# Altium footprint library PCB_Library_1.PcbLib: 41 footprints (part 1 of 3)
Each footprint in its own frame and in the unit in brackets; x right, y up, seen from the top. Pads: shape width x height; smd on the part's side, far side on the other; paste and mask are expansions set on the pad; w line width, h text height; cw(c..) or ccw(c..) is an arc to the next point about the centre after c.
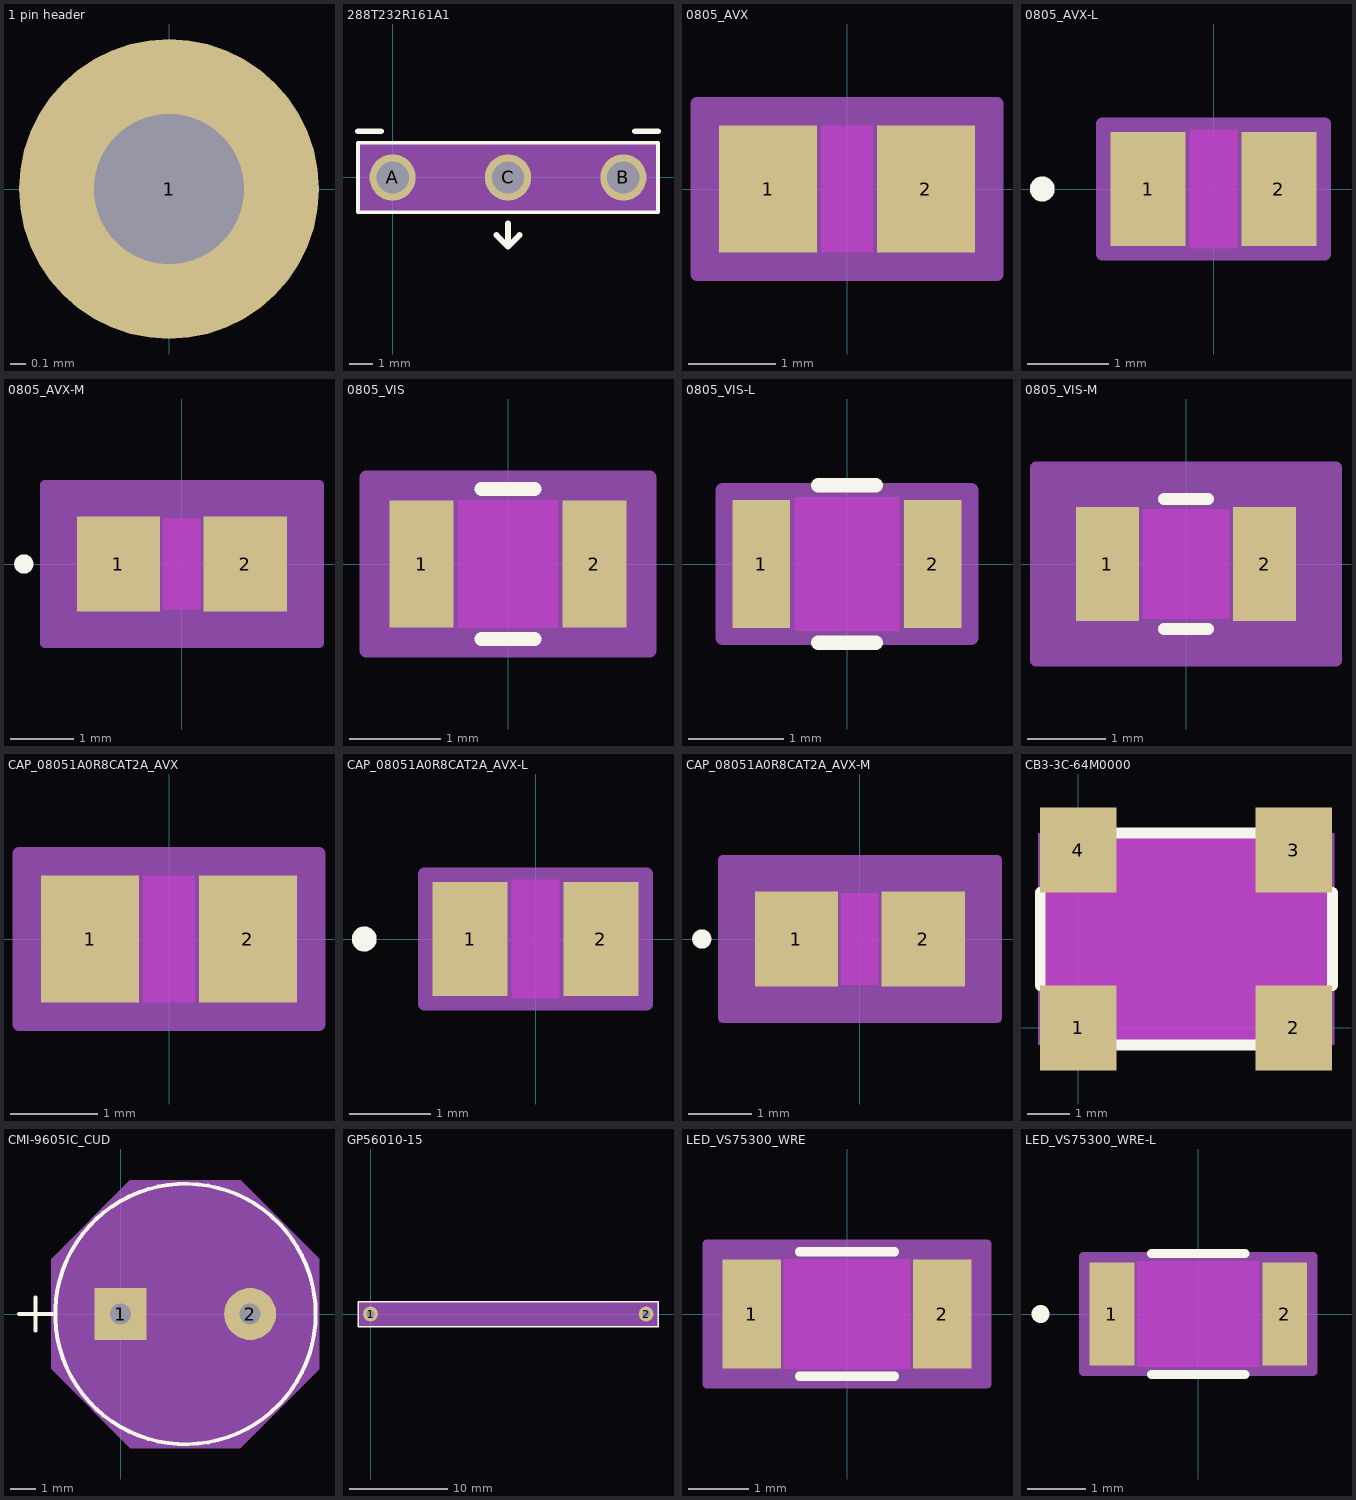
[diagram p0: the footprints below, top view; thin cyan lines are the x and y axes]

## 1 pin header [mil]
pads (1):
  round 76 / inner rect 70.87x78.74 / far side round 76 hole 38 mask+0: 1(0,0)

## 288T232R161A1 [mm]
height 9.5
pads (3):
  round 2 hole 1.4 mask+0: A(0,0) B(10,0) C(5,0)
Top Overlay:
  lines w0.152: -1.5,-1.5 11.5,-1.5 11.5,1.5 -1.5,1.5 -1.5,-1.5
  lines w0.254: -1.5,2 -0.5,2 ; 5,-2 5,-3 ; 5.5,-2.5 5,-3 ; 10.5,2 11.5,2 ; 5,-3 4.5,-2.5 5,-3
Mechanical 15:
  rectangle: -1.5,-1.5 11.5,1.5

## 0805_AVX [mil]
pads (2):
  rect 44x57 smd paste+0 mask+0: 1(-35.5,0) 2(35.5,0)
Top Layer keep-out:
  region: -11.5,-26.5 -11.5,26.5 11.5,26.5 11.5,-26.5
Keep-Out Layer:
  region: -11.5,-28.5 -11.5,28.5 11.5,28.5 11.5,-28.5
Mechanical 13:
  lines w1: -43.5,-28.5 -43.5,28.5 ; -43.5,-28.5 43.5,-28.5 ; -43.5,-28.5 -13.5,-28.5 -13.5,28.5 -43.5,28.5 ; -43.5,-28.5 -43.5,28.5 ; -43.5,28.5 43.5,28.5 ; 43.5,-28.5 43.5,28.5 ; 43.5,-28.5 43.5,28.5 ; 43.5,-28.5 13.5,-28.5 13.5,28.5 43.5,28.5
Mechanical 15:
  region: 67.5,-38.5 -67.5,-38.5 -67.5,38.5 67.5,38.5
  lines w6: -67.5,-38.5 67.5,-38.5 67.5,38.5 -67.5,38.5 -67.5,-38.5
3D body "0805_AVX.step": height 37.01, standoff 0, extent -43.5,-28.5 43.5,28.5

## 0805_AVX-L [mil]
pads (2):
  rect 36x55 smd paste+0 mask+0: 1(-31.5,0) 2(31.5,0)
Top Layer keep-out:
  region: -11.5,-26.5 -11.5,26.5 11.5,26.5 11.5,-26.5
Top Overlay:
  circle w6: c-82.5,0 r3
Keep-Out Layer:
  region: -11.5,-28.5 -11.5,28.5 11.5,28.5 11.5,-28.5
Mechanical 13:
  circle w0: c-26.5,0 r3
  lines w1: -43.5,-28.5 -43.5,28.5 ; -43.5,-28.5 -13.5,-28.5 -13.5,28.5 -43.5,28.5 ; -43.5,-28.5 43.5,-28.5 ; -43.5,-28.5 -43.5,28.5 ; -43.5,28.5 43.5,28.5 ; 43.5,-28.5 13.5,-28.5 13.5,28.5 43.5,28.5 ; 43.5,-28.5 43.5,28.5 ; 43.5,-28.5 43.5,28.5
Mechanical 15:
  region: 53.5,-31.5 -53.5,-31.5 -53.5,31.5 53.5,31.5
  lines w6: -53.5,-31.5 -53.5,31.5 53.5,31.5 53.5,-31.5 -53.5,-31.5
3D body "0805_AVX.step": height 37.01, standoff 0, extent -43.5,-28.5 43.5,28.5

## 0805_AVX-M [mil]
pads (2):
  rect 52x59 smd paste+0 mask+0: 1(-39.5,0) 2(39.5,0)
Top Layer keep-out:
  region: -11.5,-26.5 -11.5,26.5 11.5,26.5 11.5,-26.5
Top Overlay:
  circle w6: c-98.5,0 r3
Keep-Out Layer:
  region: -11.5,-28.5 -11.5,28.5 11.5,28.5 11.5,-28.5
Mechanical 13:
  circle w0: c-34.5,0 r3
  lines w1: -43.5,-28.5 -43.5,28.5 ; -43.5,-28.5 43.5,-28.5 ; -43.5,-28.5 -13.5,-28.5 -13.5,28.5 -43.5,28.5 ; -43.5,-28.5 -43.5,28.5 ; -43.5,28.5 43.5,28.5 ; 43.5,-28.5 43.5,28.5 ; 43.5,-28.5 43.5,28.5 ; 43.5,-28.5 13.5,-28.5 13.5,28.5 43.5,28.5
Mechanical 15:
  region: 85.5,-49.5 -85.5,-49.5 -85.5,49.5 85.5,49.5
  lines w6: -85.5,-49.5 85.5,-49.5 85.5,49.5 -85.5,49.5 -85.5,-49.5
3D body "0805_AVX.step": height 37.01, standoff 0, extent -43.5,-28.5 43.5,28.5

## 0805_VIS [mm]
pads (2):
  rect 0.703x1.4 smd paste+0 mask+0: 1(-0.952,0) 2(0.952,0)
Top Layer keep-out:
  region: -0.549,-0.649 -0.549,0.649 0.549,0.649 0.549,-0.649
Top Overlay:
  lines w0.152: -0.292,-0.827 0.292,-0.827 ; -0.292,0.827 0.292,0.827
Keep-Out Layer:
  region: -0.549,-0.7 -0.549,0.7 0.549,0.7 0.549,-0.7
Mechanical 13:
  lines w0.025: -1.1,-0.7 -1.1,0.7 ; -1.1,-0.7 -0.6,-0.7 -0.6,0.7 -1.1,0.7 ; -1.1,-0.7 1.1,-0.7 ; -1.1,-0.7 -1.1,0.7 ; -1.1,0.7 1.1,0.7 ; 1.1,-0.7 0.6,-0.7 0.6,0.7 1.1,0.7 ; 1.1,-0.7 1.1,0.7 ; 1.1,-0.7 1.1,0.7
Mechanical 15:
  region: 1.557,-0.954 -1.557,-0.954 -1.557,0.954 1.557,0.954
  lines w0.152: -1.557,-0.954 -1.557,0.954 1.557,0.954 1.557,-0.954 -1.557,-0.954
3D body "0805_VIS.step": height 0.84, standoff 0, extent -1.1,-0.7 1.1,0.7

## 0805_VIS-L [mil]
pads (2):
  rect 23.68x53.12 smd paste+0 mask+0: 1(-35.46,0) 2(35.46,0)
Top Layer keep-out:
  region: -21.62,-25.56 -21.62,25.56 21.62,25.56 21.62,-25.56
Top Overlay:
  lines w6: -11.98,-32.56 11.98,-32.56 ; -11.98,32.56 11.98,32.56
Keep-Out Layer:
  region: -21.62,-27.56 -21.62,27.56 21.62,27.56 21.62,-27.56
Mechanical 13:
  lines w1: -43.31,-27.56 -43.31,27.56 ; -43.31,-27.56 43.31,-27.56 ; -43.31,-27.56 -23.62,-27.56 -23.62,27.56 -43.31,27.56 ; -43.31,-27.56 -43.31,27.56 ; -43.31,27.56 43.31,27.56 ; 43.31,-27.56 43.31,27.56 ; 43.31,-27.56 43.31,27.56 ; 43.31,-27.56 23.62,-27.56 23.62,27.56 43.31,27.56
Mechanical 15:
  region: 51.31,-30.56 -51.31,-30.56 -51.31,30.56 51.31,30.56
  lines w6: -51.31,-30.56 51.31,-30.56 51.31,30.56 -51.31,30.56 -51.31,-30.56
3D body "0805_VIS.step": height 32.99, standoff 0, extent -43.31,-27.56 43.31,27.56

## 0805_VIS-M [mil]
pads (2):
  rect 31.68x57.12 smd paste+0 mask+0: 1(-39.46,0) 2(39.46,0)
Top Layer keep-out:
  region: -21.62,-25.56 -21.62,25.56 21.62,25.56 21.62,-25.56
Top Overlay:
  lines w6: -11.15,-32.56 11.15,-32.56 ; -11.15,32.56 11.15,32.56
Keep-Out Layer:
  region: -21.62,-27.56 -21.62,27.56 21.62,27.56 21.62,-27.56
Mechanical 13:
  lines w1: -43.31,-27.56 -43.31,27.56 ; -43.31,-27.56 43.31,-27.56 ; -43.31,-27.56 -23.62,-27.56 -23.62,27.56 -43.31,27.56 ; -43.31,-27.56 -43.31,27.56 ; -43.31,27.56 43.31,27.56 ; 43.31,-27.56 43.31,27.56 ; 43.31,-27.56 43.31,27.56 ; 43.31,-27.56 23.62,-27.56 23.62,27.56 43.31,27.56
Mechanical 15:
  region: 75.31,-48.56 -75.31,-48.56 -75.31,48.56 75.31,48.56
  lines w6: -75.31,-48.56 75.31,-48.56 75.31,48.56 -75.31,48.56 -75.31,-48.56
3D body "0805_VIS.step": height 32.99, standoff 0, extent -43.31,-27.56 43.31,27.56

## CAP_08051A0R8CAT2A_AVX [mil]
pads (2):
  rect 44x57 smd paste+0 mask+0: 1(-35.5,0) 2(35.5,0)
Top Layer keep-out:
  region: -11.5,-26.5 -11.5,26.5 11.5,26.5 11.5,-26.5
Keep-Out Layer:
  region: -11.5,-28.5 -11.5,28.5 11.5,28.5 11.5,-28.5
Mechanical 13:
  lines w1: -43.5,-28.5 -43.5,28.5 ; -43.5,-28.5 43.5,-28.5 ; -43.5,-28.5 -13.5,-28.5 -13.5,28.5 -43.5,28.5 ; -43.5,-28.5 -43.5,28.5 ; -43.5,28.5 43.5,28.5 ; 43.5,-28.5 43.5,28.5 ; 43.5,-28.5 43.5,28.5 ; 43.5,-28.5 13.5,-28.5 13.5,28.5 43.5,28.5
Mechanical 15:
  region: 67.5,-38.5 -67.5,-38.5 -67.5,38.5 67.5,38.5
  lines w6: -67.5,-38.5 67.5,-38.5 67.5,38.5 -67.5,38.5 -67.5,-38.5
3D body "CAP_08051A0R8CAT2A_AVX.step": height 37.01, standoff 0, extent -43.5,-28.5 43.5,28.5

## CAP_08051A0R8CAT2A_AVX-L [mil]
pads (2):
  rect 36x55 smd paste+0 mask+0: 1(-31.5,0) 2(31.5,0)
Top Layer keep-out:
  region: -11.5,-26.5 -11.5,26.5 11.5,26.5 11.5,-26.5
Top Overlay:
  circle w6: c-82.5,0 r3
Keep-Out Layer:
  region: -11.5,-28.5 -11.5,28.5 11.5,28.5 11.5,-28.5
Mechanical 13:
  circle w0: c-26.5,0 r3
  lines w1: -43.5,-28.5 -43.5,28.5 ; -43.5,-28.5 -13.5,-28.5 -13.5,28.5 -43.5,28.5 ; -43.5,-28.5 43.5,-28.5 ; -43.5,-28.5 -43.5,28.5 ; -43.5,28.5 43.5,28.5 ; 43.5,-28.5 13.5,-28.5 13.5,28.5 43.5,28.5 ; 43.5,-28.5 43.5,28.5 ; 43.5,-28.5 43.5,28.5
Mechanical 15:
  region: 53.5,-31.5 -53.5,-31.5 -53.5,31.5 53.5,31.5
  lines w6: -53.5,-31.5 -53.5,31.5 53.5,31.5 53.5,-31.5 -53.5,-31.5
3D body "CAP_08051A0R8CAT2A_AVX.step": height 37.01, standoff 0, extent -43.5,-28.5 43.5,28.5

## CAP_08051A0R8CAT2A_AVX-M [mil]
pads (2):
  rect 52x59 smd paste+0 mask+0: 1(-39.5,0) 2(39.5,0)
Top Layer keep-out:
  region: -11.5,-26.5 -11.5,26.5 11.5,26.5 11.5,-26.5
Top Overlay:
  circle w6: c-98.5,0 r3
Keep-Out Layer:
  region: -11.5,-28.5 -11.5,28.5 11.5,28.5 11.5,-28.5
Mechanical 13:
  circle w0: c-34.5,0 r3
  lines w1: -43.5,-28.5 -43.5,28.5 ; -43.5,-28.5 -13.5,-28.5 -13.5,28.5 -43.5,28.5 ; -43.5,-28.5 43.5,-28.5 ; -43.5,-28.5 -43.5,28.5 ; -43.5,28.5 43.5,28.5 ; 43.5,-28.5 13.5,-28.5 13.5,28.5 43.5,28.5 ; 43.5,-28.5 43.5,28.5 ; 43.5,-28.5 43.5,28.5
Mechanical 15:
  region: 85.5,-49.5 -85.5,-49.5 -85.5,49.5 85.5,49.5
  lines w6: -85.5,-49.5 -85.5,49.5 85.5,49.5 85.5,-49.5 -85.5,-49.5
3D body "CAP_08051A0R8CAT2A_AVX.step": height 37.01, standoff 0, extent -43.5,-28.5 43.5,28.5

## CB3-3C-64M0000 [mm]
pads (4):
  rect 1.8x2 smd mask+0: 1(0,0) 2(5.08,0) 3(5.08,4.2) 4(0,4.2)
Top Layer keep-out:
  region: -0.9,3.2 -0.9,1 0.9,1 0.9,-0.4 4.175,-0.4 4.175,1 5.975,1 5.975,3.2 4.175,3.2 4.175,4.6 0.9,4.6 0.9,3.2
Top Overlay:
  lines w0.254: -0.9,1 -0.9,3.2 ; 0.9,-0.4 4.2,-0.4 ; 0.9,4.6 4.2,4.6 ; 6,1 6,3.2
Mechanical 15:
  rectangle: -0.95,-0.4 6.05,4.6

## CMI-9605IC_CUD [mil]
pads (2):
  rect 79x79 / inner round 60 / far side rect 79x79 hole 32 paste-99999 mask+0: 1(0,0)
  round 79 / inner round 60 / far side round 79 hole 32 paste-99999 mask+0: 2(196.85,0)
Top Overlay:
  circle w6: c98.43,0 r198
  lines w6: -154.57,0 -104.57,0 ; -129.57,-25 -129.57,25
Mechanical 13:
  circle w0: c98.43,0 r193
  lines w1: -154.57,0 -104.57,0 ; -129.57,-25 -129.57,25
Mechanical 15:
  region: -104.57,83.59 14.84,203 182.01,203 301.43,83.59 301.43,-83.59 182.01,-203 14.84,-203 -104.57,-83.59
  lines w1: -104.57,-83.59 14.84,-203 182.01,-203 301.43,-83.59 301.43,83.59 182.01,203 14.84,203 -104.57,83.59 -104.57,-83.59
3D body "CMI-9605IC_CUD.step": height 187.6, standoff -165.98, extent -94.57,-193 292.41,193

## GP56010-15 [mm]
pads (2):
  round 1.5 hole 0.813 mask+0: 1(0,0) 2(28,0)
Top Overlay:
  lines w0.152: -1.27,-1.27 29.21,-1.27 29.21,1.27 -1.27,1.27 -1.27,-1.27
Mechanical 15:
  rectangle: -1.27,-1.27 29.21,1.27

## LED_VS75300_WRE [mil]
pads (2):
  rect 38x71 smd paste+0 mask+0: 1(-62,0) 2(62,0)
Top Layer keep-out:
  region: -41,-33.5 -41,33.5 41,33.5 41,-33.5
Top Overlay:
  lines w6: -30.89,-40.5 30.89,-40.5 ; -30.89,40.5 30.89,40.5
Keep-Out Layer:
  region: -41,-35.5 -41,35.5 41,35.5 41,-35.5
Mechanical 13:
  lines w1: -67,-35.5 -67,35.5 ; -67,-35.5 67,-35.5 ; -67,-35.5 -43,-35.5 -43,35.5 -67,35.5 ; -67,-35.5 -67,35.5 ; -67,35.5 67,35.5 ; 67,-35.5 67,35.5 ; 67,-35.5 67,35.5 ; 67,-35.5 43,-35.5 43,35.5 67,35.5
Mechanical 15:
  region: 91,-45.5 -91,-45.5 -91,45.5 91,45.5
  lines w6: -91,-45.5 91,-45.5 91,45.5 -91,45.5 -91,-45.5
3D body "LED_VS75300_WRE.step": height 55, standoff 0, extent -67.01,-35.51 67.01,35.51

## LED_VS75300_WRE-L [mil]
pads (2):
  rect 30x69 smd paste+0 mask+0: 1(-58,0) 2(58,0)
Top Layer keep-out:
  region: -41,-33.5 -41,33.5 41,33.5 41,-33.5
Top Overlay:
  circle w6: c-106,0 r3
  lines w6: -31.35,-40.5 31.35,-40.5 ; -31.35,40.5 31.35,40.5
Keep-Out Layer:
  region: -41,-35.5 -41,35.5 41,35.5 41,-35.5
Mechanical 13:
  circle w0: c-53,0 r3
  lines w1: -67,-35.5 -67,35.5 ; -67,-35.5 -43,-35.5 -43,35.5 -67,35.5 ; -67,-35.5 67,-35.5 ; -67,-35.5 -67,35.5 ; -67,35.5 67,35.5 ; 67,-35.5 43,-35.5 43,35.5 67,35.5 ; 67,-35.5 67,35.5 ; 67,-35.5 67,35.5
Mechanical 15:
  region: 77,-38.5 -77,-38.5 -77,38.5 77,38.5
  lines w6: -77,-38.5 -77,38.5 77,38.5 77,-38.5 -77,-38.5
3D body "LED_VS75300_WRE.step": height 55, standoff 0, extent -67.01,-35.51 67.01,35.51